# Altium schematic symbol library UbiWatch_SchLib.SchLib: 21 symbols
Pins are listed as number, name and electrical type; pins without a type are passive.

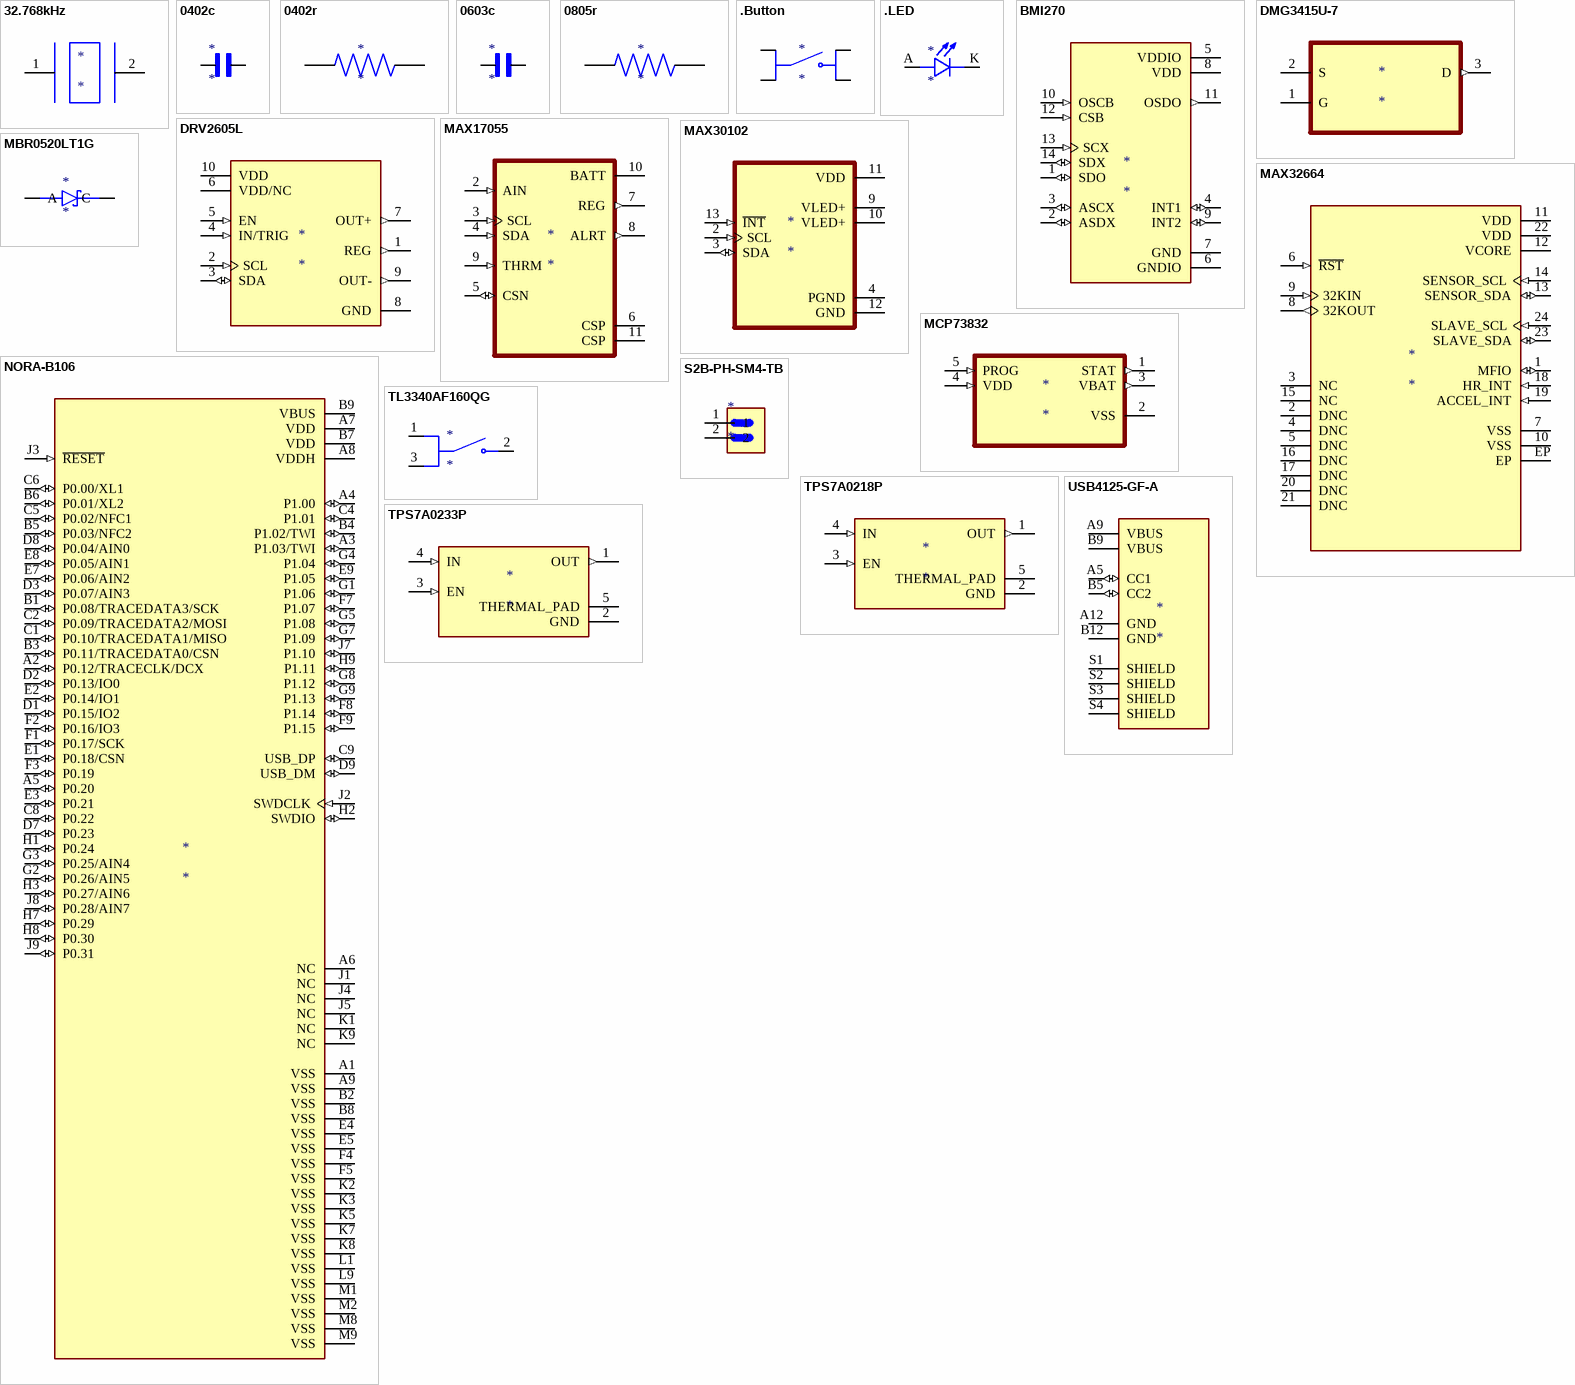
[diagram p0: symbols 32.768kHz to USB4125-GF-A]

## 32.768kHz
designator *
footprint 32.768kHz
pins: 1, 2

## 0402c
designator *
footprint 0402c
pins: 1, 2

## 0402r
designator *
footprint 0402r
pins: 1, 2

## 0603c
designator *
footprint 0603c
pins: 1, 2

## 0805r
designator *
footprint 0805r
pins: 1, 2

## .Button
designator *
footprint .Button
pins: A1, A2, B1, B2

## .LED
designator *
footprint .LED
pins: A, K

## BMI270
designator *
footprint BMI270
pins: 1 SDO (io), 2 ASDX (io), 3 ASCX (io), 4 INT1 (io), 5 VDDIO (power), 6 GNDIO (power), 7 GND (power), 8 VDD (power), 9 INT2 (io), 10 OSCB (in), 11 OSDO (out), 12 CSB (in), 13 SCX (in), 14 SDX (io)

## DMG3415U-7
designator *
footprint DMG3415U-7
pins: 1 G (power), 2 S, 3 D (out)

## DRV2605L
designator *
footprint DRV2605L
pins: 1 REG (out), 2 SCL (in), 3 SDA (io), 4 IN/TRIG (in), 5 EN (in), 6 VDD/NC (power), 7 OUT+ (out), 8 GND (power), 9 OUT- (out), 10 VDD (power)

## MAX17055
designator *
footprint MAX17055
pins: 2 AIN (in), 3 SCL (in), 4 SDA (in), 5 CSN (io), 6 CSP (power), 7 REG (out), 8 ALRT (out), 9 THRM (in), 10 BATT (power), 11 CSP (power)

## MAX30102
designator *
footprint MAX30102
pins: 2 SCL (in), 3 SDA (io), 4 PGND (power), 9 VLED+ (power), 10 VLED+ (power), 11 VDD (power), 12 GND (power), 13 ~{INT} (in)

## MAX32664
designator *
footprint MAX32664
pins: 1 MFIO (io), 2 DNC, 3 NC, 4 DNC, 5 DNC, 6 ~{RST} (in), 7 VSS (power), 8 32KOUT (out), 9 32KIN (in), 10 VSS (power), 11 VDD (power), 12 VCORE (power), 13 SENSOR_SDA (io), 14 SENSOR_SCL (in), 15 NC, 16 DNC, 17 DNC, 18 HR_INT (in), 19 ACCEL_INT (in), 20 DNC, 21 DNC, 22 VDD (power), 23 SLAVE_SDA (io), 24 SLAVE_SCL (in), EP (power)

## MBR0520LT1G
designator *
footprint MBR0520LT1G
pins: A, C

## MCP73832
designator *
footprint MCP73832
pins: 1 STAT (out), 2 VSS (power), 3 VBAT (out), 4 VDD (in), 5 PROG (in)

## NORA-B106
designator *
footprint NORA-B106
pins: A1 VSS (power), A2 P0.12/TRACECLK/DCX (io), A3 P1.03/TWI (io), A4 P1.00 (io), A5 P0.20 (io), A6 NC, A7 VDD (power), A8 VDDH (power), A9 VSS (power), B1 P0.08/TRACEDATA3/SCK (io), B2 VSS (power), B3 P0.11/TRACEDATA0/CSN (io), B4 P1.02/TWI (io), B5 P0.03/NFC2 (io), B6 P0.01/XL2 (io), B7 VDD (power), B8 VSS (power), B9 VBUS (power), C1 P0.10/TRACEDATA1/MISO (io), C2 P0.09/TRACEDATA2/MOSI (io), C4 P1.01 (io), C5 P0.02/NFC1 (io), C6 P0.00/XL1 (io), C8 P0.22 (io), C9 USB_DP (io), D1 P0.15/IO2 (io), D2 P0.13/IO0 (io), D3 P0.07/AIN3 (io), D7 P0.23 (io), D8 P0.04/AIN0 (io), D9 USB_DM (io), E1 P0.18/CSN (io), E2 P0.14/IO1 (io), E3 P0.21 (io), E4 VSS (power), E5 VSS (power), E7 P0.06/AIN2 (io), E8 P0.05/AIN1 (io), E9 P1.05 (io), F1 P0.17/SCK (io), F2 P0.16/IO3 (io), F3 P0.19 (io), F4 VSS (power), F5 VSS (power), F7 P1.07 (io), F8 P1.14 (io), F9 P1.15 (io), G1 P1.06 (io), G2 P0.26/AIN5 (io), G3 P0.25/AIN4 (io), G4 P1.04 (io), G5 P1.08 (io), G7 P1.09 (io), G8 P1.12 (io), G9 P1.13 (io), H1 P0.24 (io), H2 SWDIO (io), H3 P0.27/AIN6 (io), H7 P0.29 (io), H8 P0.30 (io), H9 P1.11 (io), J1 NC, J2 SWDCLK (in), J3 ~{RESET} (in), J4 NC, J5 NC, J7 P1.10 (io), J8 P0.28/AIN7 (io), J9 P0.31 (io), K1 NC, K2 VSS (power), K3 VSS (power), K5 VSS (power), K7 VSS (power), K8 VSS (power), K9 NC, L1 VSS (power), L9 VSS (power), M1 VSS (power), M2 VSS (power), M8 VSS (power), M9 VSS (power)

## S2B-PH-SM4-TB
designator *
footprint S2B-PH-SM4-TB
pins: 1, 2

## TL3340AF160QG
designator *
footprint TL3340AF160QG
pins: 1 COM_1, 2 NO, 3 COM_2

## TPS7A0218P
designator *
footprint TPS7A0218P
pins: 1 OUT (out), 2 GND (power), 3 EN (in), 4 IN (in), 5 THERMAL_PAD (power)

## TPS7A0233P
designator *
footprint TPS7A0233P
pins: 1 OUT (out), 2 GND (power), 3 EN (in), 4 IN (in), 5 THERMAL_PAD (power)

## USB4125-GF-A
designator *
footprint USB4125-GF-A
pins: A5 CC1 (io), A9 VBUS (power), A12 GND (power), B5 CC2 (io), B9 VBUS (power), B12 GND (power), S1 SHIELD, S2 SHIELD, S3 SHIELD, S4 SHIELD